# EAGLE library part PGA2311 (library wheat)
Gain control amp TI PGA2311
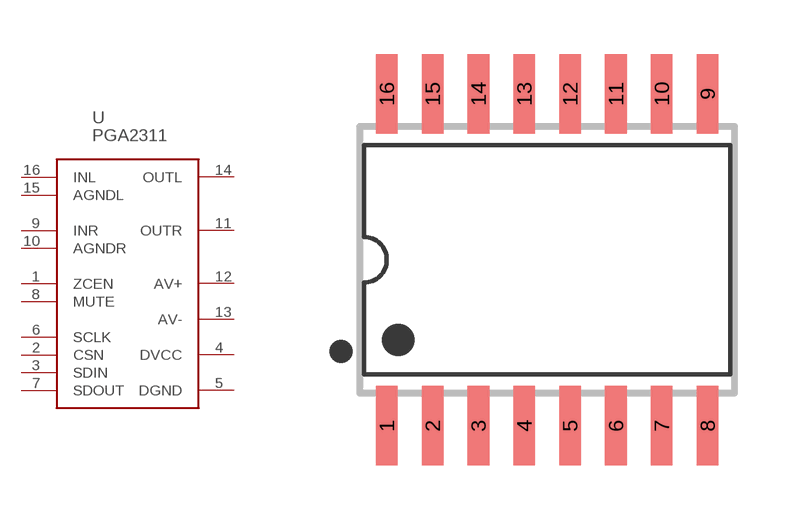
[diagram p100: symbol with the pads of SOL16; footprint SOL16]

Designator prefix -

## PGA2311DW  [SOL16]
1  ZCEN  in
2  CSN  in
3  SDIN  in
4  DVCC  in
5  DGND  in
6  SCLK  in
7  SDOUT  out
8  MUTE  in
9  INR  in
10  AGNDR  in
11  OUTR  out
12  AV+  in
13  AV-  in
14  OUTL  out
15  AGNDL  in
16  INL  in

## Footprint SOL16 (pad centres in mm)
Wide SO16 (TI DW)
smd 0.6 x 2.2: 1 -4.445,-4.6; 2 -3.175,-4.6; 3 -1.905,-4.6; 4 -0.635,-4.6; 5 0.635,-4.6; 6 1.905,-4.6; 7 3.175,-4.6; 8 4.445,-4.6; 9 4.445,4.6; 10 3.175,4.6; 11 1.905,4.6; 12 0.635,4.6; 13 -0.635,4.6; 14 -1.905,4.6; 15 -3.175,4.6; 16 -4.445,4.6